# EAGLE library part LM628 (library national-semi)
Precision Motion Controller
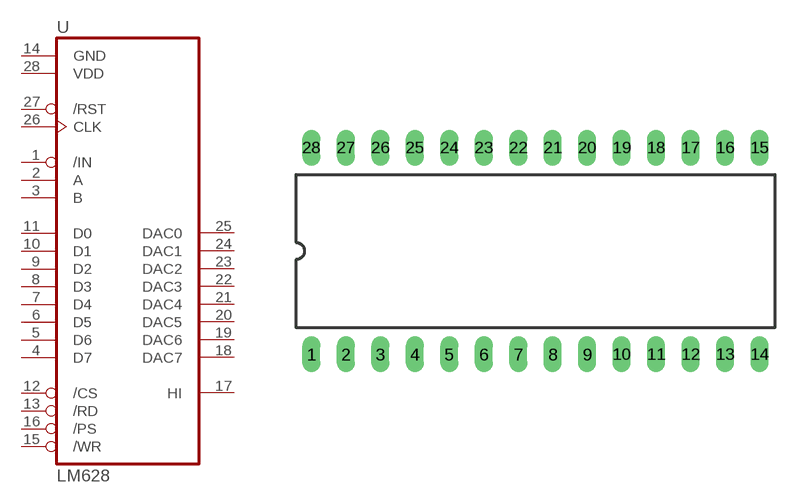
[diagram p20: symbol with the pads of DIL28-6; footprint DIL28-6]

Designator prefix U

## LM628  [DIL28-6]
1  /IN  in
2  A  in
3  B  in
4  D7
5  D6
6  D5
7  D4
8  D3
9  D2
10  D1
11  D0
12  /CS  in
13  /RD  in
14  GND  pwr
15  /WR  in
16  /PS  in
17  HI  out
18  DAC7  out
19  DAC6  out
20  DAC5  out
21  DAC4  out
22  DAC3  out
23  DAC2  out
24  DAC1  out
25  DAC0  out
26  CLK  in
27  /RST  in
28  VDD  pwr

## Footprint DIL28-6 (pad centres in mm)
Dual In Line Package 0.6 inch
drill 0.813 long: 1 -16.51,-7.62; 2 -13.97,-7.62; 3 -11.43,-7.62; 4 -8.89,-7.62; 5 -6.35,-7.62; 6 -3.81,-7.62; 7 -1.27,-7.62; 8 1.27,-7.62; 9 3.81,-7.62; 10 6.35,-7.62; 11 8.89,-7.62; 12 11.43,-7.62; 13 13.97,-7.62; 14 16.51,-7.62; 15 16.51,7.62; 16 13.97,7.62; 17 11.43,7.62; 18 8.89,7.62; 19 6.35,7.62; 20 3.81,7.62; 21 1.27,7.62; 22 -1.27,7.62; 23 -3.81,7.62; 24 -6.35,7.62; 25 -8.89,7.62; 26 -11.43,7.62; 27 -13.97,7.62; 28 -16.51,7.62